# EAGLE library part PIC32MX220F032B (library Minero)
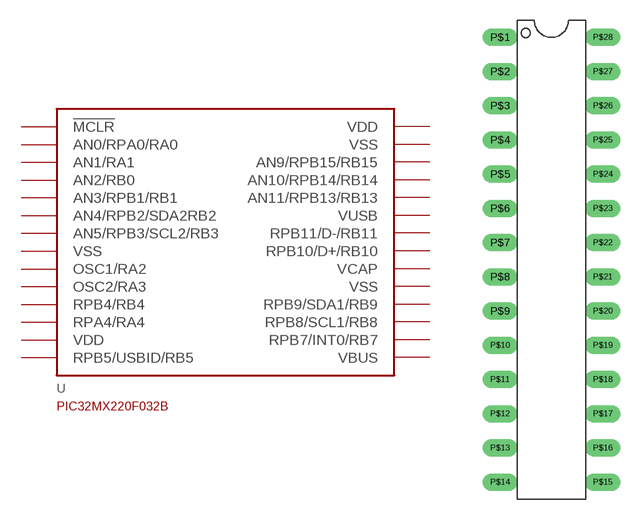
[diagram p1: symbol with the pads of DIP28; footprint DIP28]

Designator prefix -

## PIC32MX220F032B  [DIP28]
P$1  !MCLR!
P$2  AN0/RPA0/RA0
P$3  AN1/RA1
P$4  AN2/RB0
P$5  AN3/RPB1/RB1
P$6  AN4/RPB2/SDA2RB2
P$7  AN5/RPB3/SCL2/RB3
P$8  VSS  pwr
P$9  OSC1/RA2
P$10  OSC2/RA3
P$11  RPB4/RB4
P$12  RPA4/RA4
P$13  VDD  pwr
P$14  RPB5/USBID/RB5
P$15  VUSB  pwr
P$16  RPB7/INT0/RB7
P$17  RPB8/SCL1/RB8
P$18  RPB9/SDA1/RB9
P$19  VSS  pwr
P$20  VCAP
P$21  RPB10/D+/RB10
P$22  RPB11/D-/RB11
P$23  VBUS
P$24  AN11/RPB13/RB13
P$25  AN10/RPB14/RB14
P$26  AN9/RPB15/RB15
P$27  VSS  pwr
P$28  VDD  pwr

## Footprint DIP28 (pad centres in mm)
drill 0.8 long: P$1 -3.81,15.24; P$2 -3.81,12.7; P$3 -3.81,10.16; P$4 -3.81,7.62; P$5 -3.81,5.08; P$6 -3.81,2.54; P$7 -3.81,0; P$8 -3.81,-2.54; P$9 -3.81,-5.08; P$10 -3.81,-7.62; P$11 -3.81,-10.16; P$12 -3.81,-12.7; P$13 -3.81,-15.24; P$14 -3.81,-17.78; P$15 3.81,-17.78; P$16 3.81,-15.24; P$17 3.81,-12.7; P$18 3.81,-10.16; P$19 3.81,-7.62; P$20 3.81,-5.08; P$21 3.81,-2.54; P$22 3.81,0; P$23 3.81,2.54; P$24 3.81,5.08; P$25 3.81,7.62; P$26 3.81,10.16; P$27 3.81,12.7; P$28 3.81,15.24